# Altium footprint library PcbLib1.PcbLib: 35 footprints (part 3 of 3)
Each footprint in its own frame and in the unit in brackets; x right, y up, seen from the top. Pads: shape width x height; smd on the part's side, far side on the other; paste and mask are expansions set on the pad; w line width, h text height; cw(c..) or ccw(c..) is an arc to the next point about the centre after c.
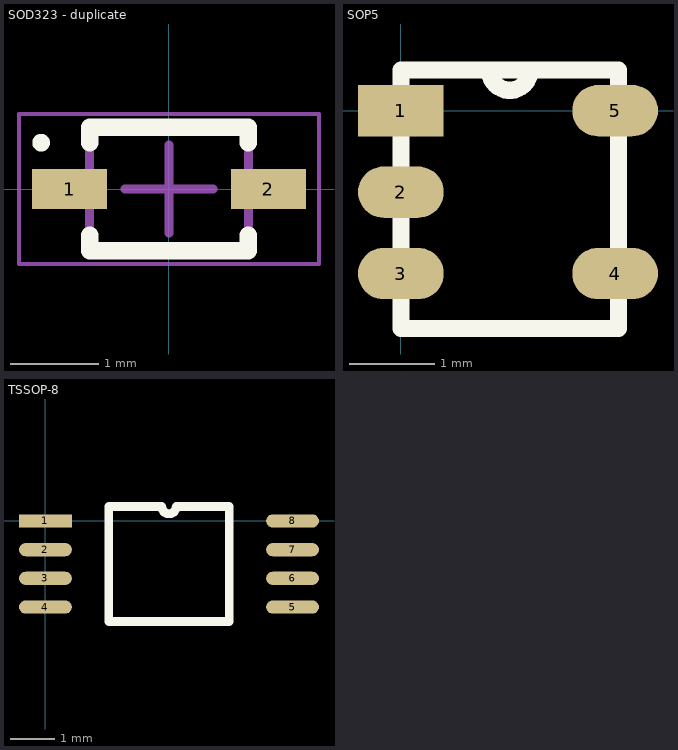
[diagram p2: the footprints below, top view; thin cyan lines are the x and y axes]

## SOD323 - duplicate [mm]
pads (2):
  rect 0.85x0.45 smd: 1(-1.125,0) 2(1.125,0)
Top Overlay:
  circle w0.1: c-1.45,0.525 r0.05
  lines w0.2: -0.9,-0.525 -0.9,-0.7 0.9,-0.7 0.9,-0.525 ; -0.9,0.525 -0.9,0.7 0.9,0.7 0.9,0.525
Mechanical 13:
  lines w0.1: -0.9,-0.675 0.9,-0.675 0.9,0.675 -0.9,0.675 -0.9,-0.675
Mechanical 15:
  lines w0.05: -1.7,-0.85 1.7,-0.85 1.7,0.85 -1.7,0.85 -1.7,-0.85
  lines w0.1: -0.5,0 0.5,0 ; 0,-0.5 0,0.5
3D body: height 1.1, standoff 0, extent -0.9,-0.675 0.9,0.675

## SOP5 [mm]
pads (5):
  rect 1x0.6 smd: 1(0,0)
  oval 1x0.6 smd: 2(0,-0.95) 3(0,-1.9) 4(2.5,-1.9) 5(2.5,0)
Top Overlay:
  lines w0.2: 1.012,0.475 2.54,0.475 2.54,-2.54 0,-2.54 0,0.475 1.488,0.475 ; 1.032,0.475 ccw(c1.27,0.475) 1.508,0.475

## TSSOP-8 [mm]
pads (8):
  rect 1.2x0.3 smd: 1(0,0)
  oval 1.2x0.3 smd: 2(0,-0.65) 3(0,-1.3) 4(0,-1.95) 5(5.6,-1.95) 6(5.6,-1.3) 7(5.6,-0.65) 8(5.6,0)
Top Overlay:
  lines w0.2: 1.435,-2.275 4.165,-2.275 4.165,0.325 2.962,0.325 cw(c2.8,0.325) 2.638,0.325 1.435,0.325 1.435,-2.275
3D body: height 2, standoff 0, extent 1.434,-2.276 4.166,0.326